# EAGLE library part LL1530 (library lundahl)
LL1530 Transformer
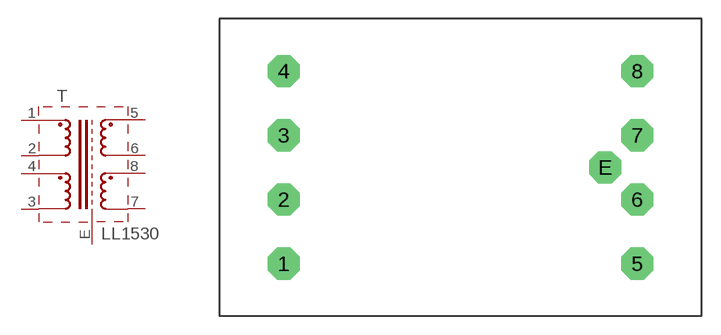
[diagram p2: symbol with the pads of LL1530; footprint LL1530]

Designator prefix T

## LL1530  [LL1530]
1  1  pas
2  2  pas
3  3  pas
4  4  pas
5  5  pas
6  6  pas
7  7  pas
8  8  pas
E  E  pas

## Footprint LL1530 (pad centres in mm)
LL1530
drill 1.27 pad 2.54 octagon: 1 -13.97,-7.62; 2 -13.97,-2.54; 3 -13.97,2.54; 4 -13.97,7.62; 5 13.97,-7.62; 6 13.97,-2.54; 7 13.97,2.54; 8 13.97,7.62; E 11.43,0